# EAGLE library part DIP8 (library dsantoro-sw)
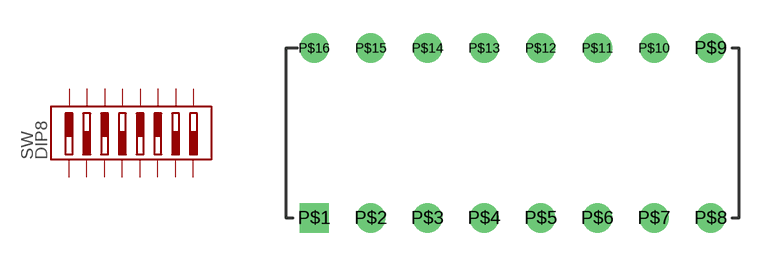
[diagram p0: symbol with the pads of DIP8; footprint DIP8]

Designator prefix SW

## DIP8  [DIP8]
P$1  1
P$2  2
P$3  3
P$4  4
P$5  5
P$6  6
P$7  7
P$8  8
P$9  9
P$10  10
P$11  11
P$12  12
P$13  13
P$14  14
P$15  15
P$16  16

## Footprint DIP8 (pad centres in mm)
drill 0.8 square: P$1 0,0
drill 0.8: P$2 2.54,0; P$3 5.08,0; P$4 7.62,0; P$5 10.16,0; P$6 12.7,0; P$7 15.24,0; P$8 17.78,0; P$9 17.78,7.62; P$10 15.24,7.62; P$11 12.7,7.62; P$12 10.16,7.62; P$13 7.62,7.62; P$14 5.08,7.62; P$15 2.54,7.62; P$16 0,7.62